# Altium schematic symbol library MP1476LGTF-P.SchLib: 2 symbols
Pins are listed as number, name and electrical type; pins without a type are passive.

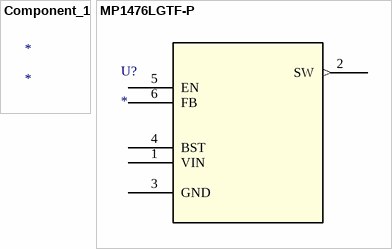
[diagram p0: symbols Component_1 to MP1476LGTF-P]

## Component_1
designator *

## MP1476LGTF-P
designator U?
No Description Available; Mfr_Name: Monolithic Power Systems; RefDes: RefDes; Type: Type
footprint SOT563_MP1476L_MNP
pins: 1 VIN (power), 2 SW (out), 3 GND (power), 4 BST (power), 5 EN, 6 FB